# EAGLE library part CD40109B (library SCADA_CUSTOM_LIBRARY)
Hex buffer (or up/down level translator) with tri-state outputs VDD > VCC - low-to-high level translation Vcc > Vdd - High to low level translation http://www.ti.com/lit/ds/symlink/cd40109b.pdf
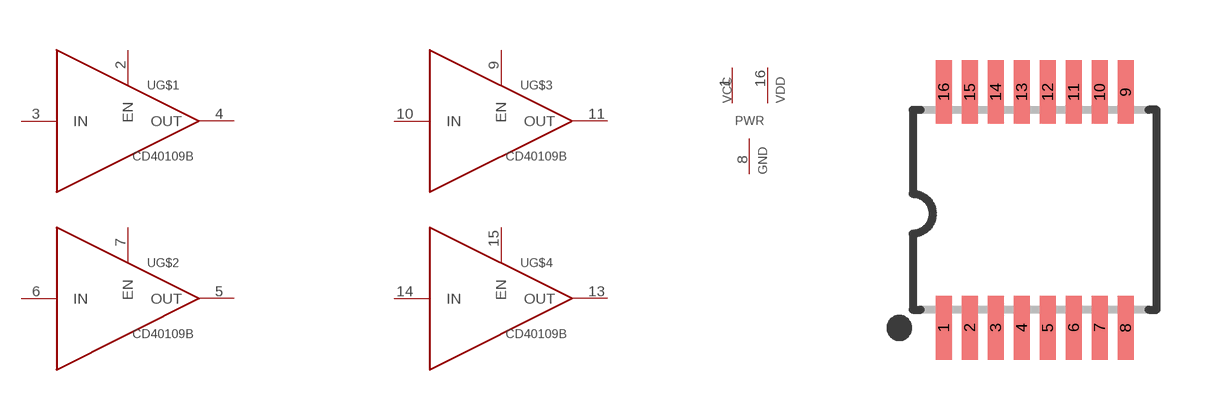
[diagram p6: symbol with the pads of TSSOP16; footprint TSSOP16]

Designator prefix U; gates G$1=BUFFER G$2=BUFFER G$3=BUFFER G$4=BUFFER G$5=CD40109B_PWR

## CD40109B  [TSSOP16]
1  G$5:VCC  pwr
2  G$1:EN  in
3  G$1:IN  in
4  G$1:OUT  out
5  G$2:OUT  out
6  G$2:IN  in
7  G$2:EN  in
8  G$5:GND  pwr
9  G$3:EN  in
10  G$3:IN  in
11  G$3:OUT  out
13  G$4:OUT  out
14  G$4:IN  in
15  G$4:EN  in
16  G$5:VDD  pwr

## Footprint TSSOP16 (pad centres in mm)
TSOP16 thin small outline package
smd 0.4 x 1.6: 1 -2.225,-2.85; 2 -1.575,-2.85; 3 -0.925,-2.85; 4 -0.275,-2.85; 5 0.375,-2.85; 6 1.025,-2.85; 7 1.675,-2.85; 8 2.325,-2.85; 9 2.325,3.05; 10 1.675,3.05; 11 1.025,3.05; 12 0.375,3.05; 13 -0.275,3.05; 14 -0.925,3.05; 15 -1.575,3.05; 16 -2.225,3.05